# EAGLE library part 693071010811 (library WR-CRD)
WR-CRD SD Card Connectors Characteristics Available in two form factors: SD and MicroSD Available in three entry types: Push-Pull, Hinge and Push-Push SD 4.0 available in SD form factor for higher transfer speed Applications Single-board computers Surveillance systems Industrial data logging Consumer Electronics Drones <https://www.we-online.com/components/media/o32845v209%20Family_ConCRD_693071010811.jpg> Details see: www.we-online.com/components/products/WR-CRD_CARD_CONNECTORS_SD2 <www.we-online.com/catalog/WR-CRD_CARD_CONNECTORS_SD2/?utm_source=eagle_model&utm_medium=description_link&utm_campaign=eisos_eagle> Created by Yingchun,Shan 2019-11-22 2019 (C) Würth Elektronik
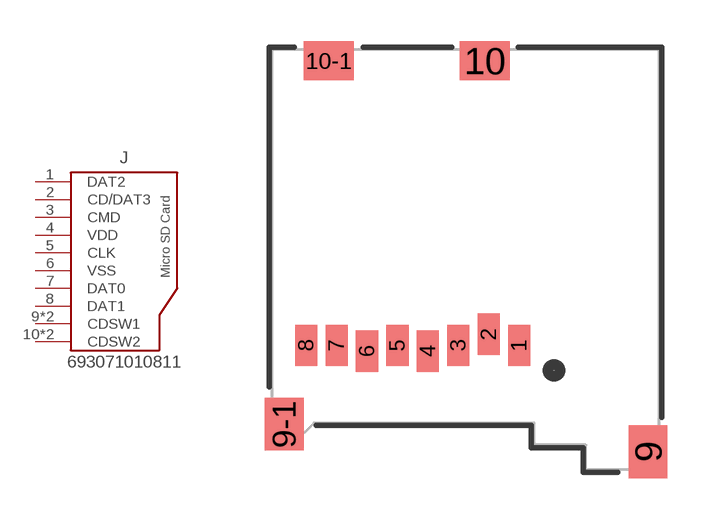
[diagram p11: symbol with the pads of 693071010811; footprint 693071010811]

Designator prefix J

## 693071010811 (DATASHEET-URL: https://www.we-online.com/redexpert/spec/693071010811?ae; DURABILITY: 10000 Mating cycles; GERDER: Socket; MOUNT: SMT; PART-NUMBER: 693071010811; PINS: 8pcs; SIZE: Micro SD; TYPE: Push & Push; VALUE: 693071010811)  [693071010811]
1  DAT2  pas
2  CD/DAT3  pas
3  CMD  pas
4  VDD  pas
5  CLK  pas
6  VSS  pas
7  DAT0  pas
8  DAT1  pas
9  CDSW1  pas
9-1  CDSW1  pas
10  CDSW2  pas
10-1  CDSW2  pas

## Footprint 693071010811 (pad centres in mm)
WR-CRD Micro SD Card Connector Push & Push 8 pins
smd 0.8 x 1.5: 1 1.94,-3.1; 2 0.84,-2.7; 3 -0.26,-3.1; 4 -1.36,-3.3; 5 -2.46,-3.1; 6 -3.56,-3.3; 7 -4.66,-3.1; 8 -5.76,-3.1
smd 1.4 x 1.9: 9 6.6,-6.95; 9-1 -6.55,-5.95
smd 1.8 x 1.4: 10 0.7,7.2; 10-1 -4.95,7.2